# Altium integrated library TI Power Management Hot Swap.IntLib: 76 symbols (part 2 of 5)
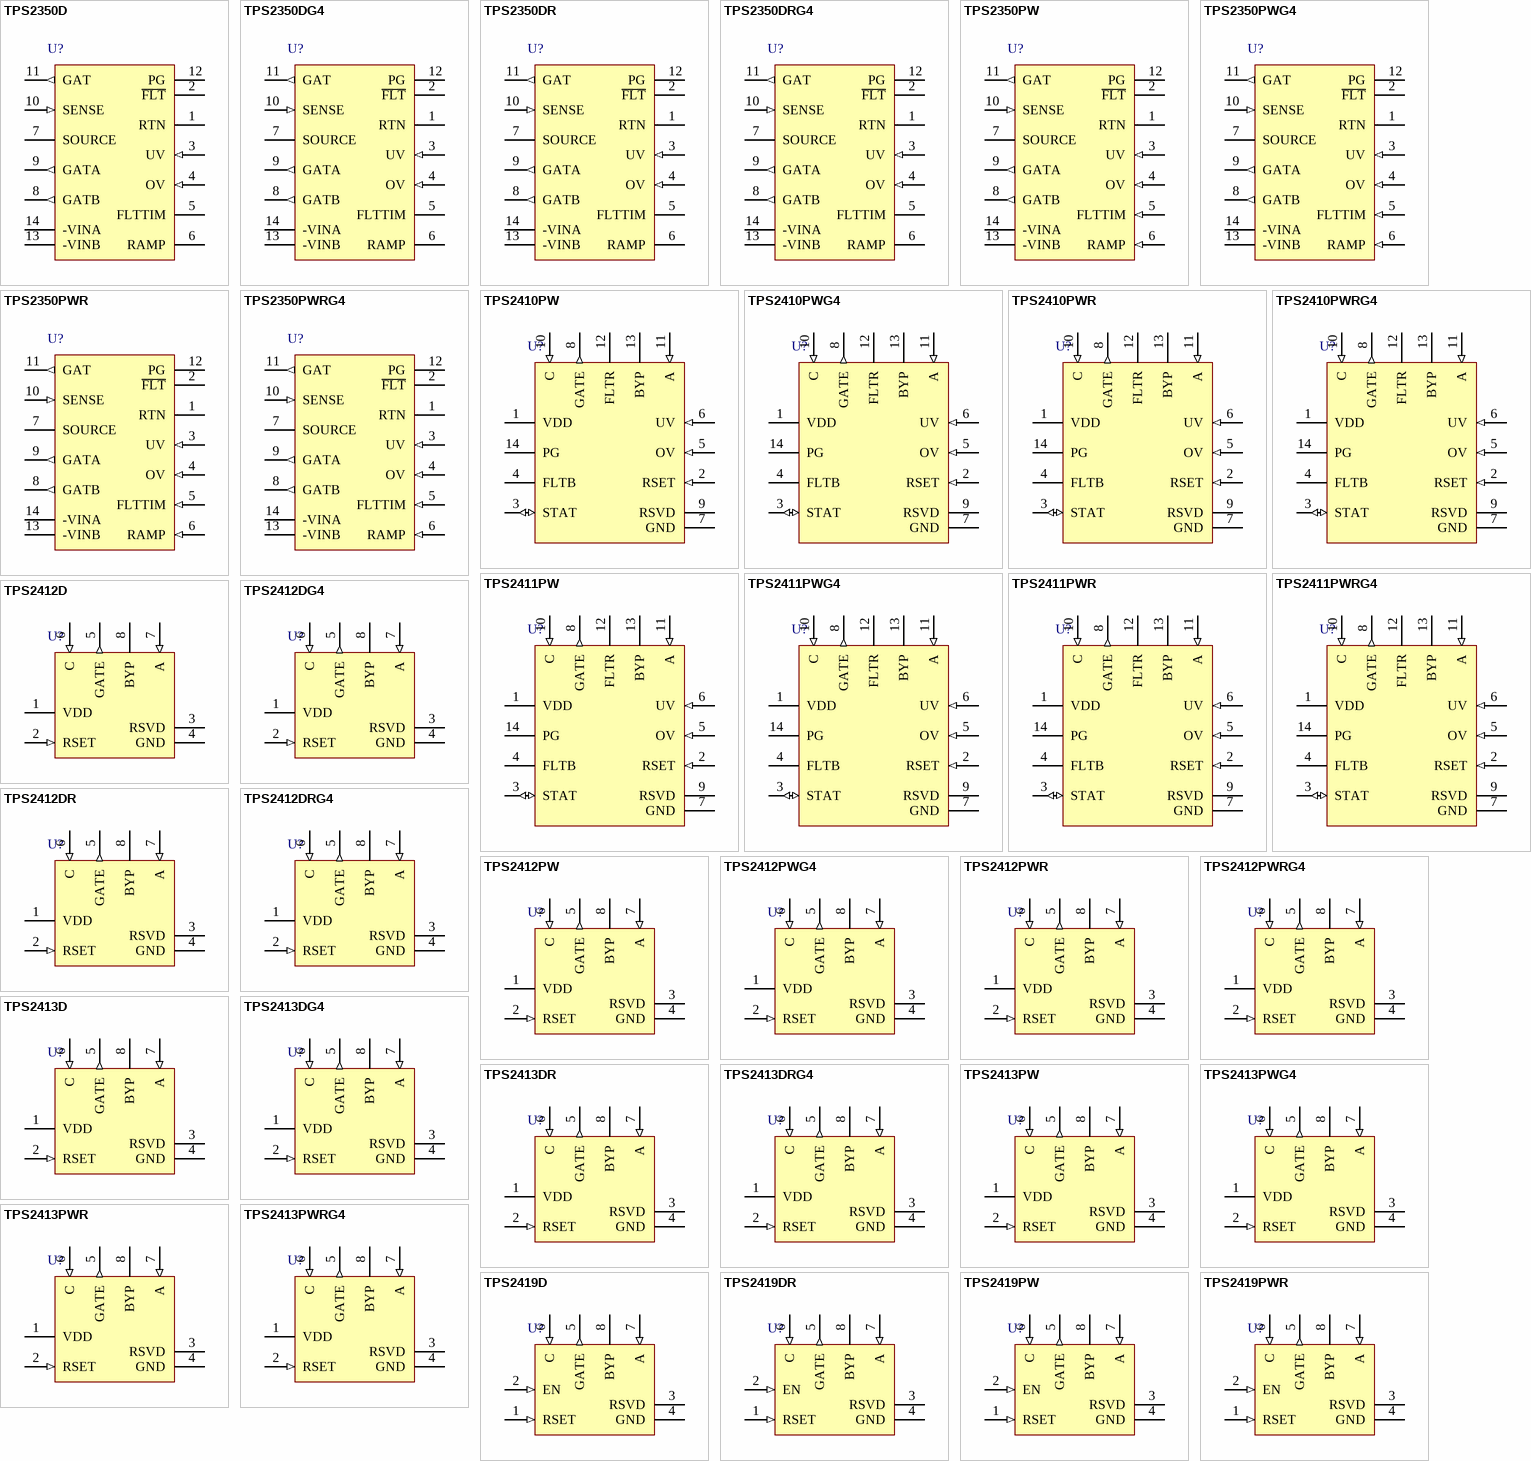
[diagram p3: symbols TPS2350D to TPS2419PWR]

## TPS2412DR
designator U?
N+1 and OR-ing Power Rail Controller, 0.8 to 16.5 V, -40 to 85 degC, 8-pin SOIC (D), Green (RoHS & no Sb/Br); Manufacturer: Texas Instruments; PartNumber: TPS2412DR; Gate Control: linear; No. of Outputs: 1; Vin(Max)(V): 16.5; Vin(Min)(V): 0.8; DatasheetVersion: SLVS728B; PackageVersion: revM, Jun-2011; PackageReference: D8; PackageDescription: 8-Pin Plastic Small Outline Integrated Circuit, 4.9 x 3.9 mm, Pitch 1.27 mm Pitch; Supplier 1: Digi-Key; Supplier Part Number 1: TPS2412DR-ND; Supplier 2: Mouser; Supplier Part Number 2: 595-TPS2412DR; Eco-Plan: Green (RoHS & no Sb/Br); Enable (OV): No; Fault and Status: No; Input Filter: No; Under/Over Voltage Reporting: No; Mounting Technology: Surface Mount; Code_JEDEC: MS-012AA; ComponentLink1Description: Datasheet; ComponentLink1URL: http://www.ti.com/general/docs/lit/getliterature.tsp?genericPartNumber=TPS2412&fileType=pdf
footprint D8_N (SOIC, 8-Leads, Body 4.9x3.9mm, Pitch 1.27mm, IPC Medium Density)
footprint D8_L (SOIC, 8-Leads, Body 4.9x3.9mm, Pitch 1.27mm, IPC High Density)
footprint D8_M (SOIC, 8-Leads, Body 4.9x3.9mm, Pitch 1.27mm, IPC Low Density)
pins: 1 VDD (power) "Input power for the gate drive charge pump and internal controls. VDD must be connected to a supply voltage >= 3 V.", 2 RSET (in) "Connect a resistor to ground to program the turn-off threshold. Leaving RSET open results in a slightly positive V(A-C) turn-off threshold.", 3 RSVD (power) "This pin must be connected to GND.", 4 GND (power) "Device ground.", 5 GATE (out) "Connect to the gate of the external MOSFET. Controls the MOSFET to emulate a low forward-voltage diode.", 6 C (in) "Voltage sense input that connects to the simulated diode cathode. Connect to the MOSFET drain in the typical configuration.", 7 A (in) "Voltage sense input that connects to the simulated diode anode. A also serves as the reference for the charge-pump bias supply on BYP. Connect to the MOSFET source in the typical configuration.", 8 BYP (power) "Connect a storage capacitor from BYP to A to filter the gate drive supply voltage."

## TPS2412DRG4
designator U?
N+1 and OR-ing Power Rail Controller, 0.8 to 16.5 V, -40 to 85 degC, 8-pin SOIC (D), Green (RoHS & no Sb/Br); Manufacturer: Texas Instruments; PartNumber: TPS2412DRG4; Gate Control: linear; No. of Outputs: 1; Vin(Max)(V): 16.5; Vin(Min)(V): 0.8; DatasheetVersion: SLVS728B; PackageVersion: revM, Jun-2011; PackageReference: D8; PackageDescription: 8-Pin Plastic Small Outline Integrated Circuit, 4.9 x 3.9 mm, Pitch 1.27 mm Pitch; Supplier 1: Digi-Key; Supplier Part Number 1: TPS2412DRG4-ND; Supplier 2: Newark; Supplier Part Number 2: 34P6478; Supplier 3: Mouser; Supplier Part Number 3: 595-TPS2412DRG4; Eco-Plan: Green (RoHS & no Sb/Br); Enable (OV): No; Fault and Status: No; Input Filter: No; Under/Over Voltage Reporting: No; Mounting Technology: Surface Mount; Code_JEDEC: MS-012AA; ComponentLink1Description: Datasheet; ComponentLink1URL: http://www.ti.com/general/docs/lit/getliterature.tsp?genericPartNumber=TPS2412&fileType=pdf
footprint D8_N (SOIC, 8-Leads, Body 4.9x3.9mm, Pitch 1.27mm, IPC Medium Density)
footprint D8_L (SOIC, 8-Leads, Body 4.9x3.9mm, Pitch 1.27mm, IPC High Density)
footprint D8_M (SOIC, 8-Leads, Body 4.9x3.9mm, Pitch 1.27mm, IPC Low Density)
pins: 1 VDD (power) "Input power for the gate drive charge pump and internal controls. VDD must be connected to a supply voltage >= 3 V.", 2 RSET (in) "Connect a resistor to ground to program the turn-off threshold. Leaving RSET open results in a slightly positive V(A-C) turn-off threshold.", 3 RSVD (power) "This pin must be connected to GND.", 4 GND (power) "Device ground.", 5 GATE (out) "Connect to the gate of the external MOSFET. Controls the MOSFET to emulate a low forward-voltage diode.", 6 C (in) "Voltage sense input that connects to the simulated diode cathode. Connect to the MOSFET drain in the typical configuration.", 7 A (in) "Voltage sense input that connects to the simulated diode anode. A also serves as the reference for the charge-pump bias supply on BYP. Connect to the MOSFET source in the typical configuration.", 8 BYP (power) "Connect a storage capacitor from BYP to A to filter the gate drive supply voltage."

## TPS2412PW
designator U?
N+1 and OR-ing Power Rail Controller, 0.8 to 16.5 V, -40 to 85 degC, 8-pin TSSOP (PW), Green (RoHS & no Sb/Br); Manufacturer: Texas Instruments; PartNumber: TPS2412PW; Gate Control: linear; No. of Outputs: 1; Vin(Max)(V): 16.5; Vin(Min)(V): 0.8; DatasheetVersion: SLVS728B; PackageVersion: revG, Feb-2011; PackageReference: PW8; PackageDescription: 8-Pin Plastic Thin Small Outline Package 3 x 4.4 mm Body ,0.65 mm Pitch; Supplier 1: Digi-Key; Supplier Part Number 1: 296-21614-5-ND; Supplier 2: Farnell; Supplier Part Number 2: 1364300; Supplier 3: Newark; Supplier Part Number 3: 31M0448; Supplier 4: Mouser; Supplier Part Number 4: 595-TPS2412PW; Eco-Plan: Green (RoHS & no Sb/Br); Enable (OV): No; Fault and Status: No; Input Filter: No; Under/Over Voltage Reporting: No; Mounting Technology: Surface Mount; Code_JEDEC: MO-153; ComponentLink1Description: Datasheet; ComponentLink1URL: http://www.ti.com/general/docs/lit/getliterature.tsp?genericPartNumber=TPS2412&fileType=pdf
footprint PW8_N (TSOP, 8-Leads, Body 3x4.4mm, Pitch 0.65mm, IPC Medium Density)
footprint PW8_L (TSOP, 8-Leads, Body 3x4.4mm, Pitch 0.65mm, IPC High Density)
footprint PW8_M (TSOP, 8-Leads, Body 3x4.4mm, Pitch 0.65mm, IPC Low Density)
pins: 1 VDD (power) "Input power for the gate drive charge pump and internal controls. VDD must be connected to a supply voltage >= 3 V.", 2 RSET (in) "Connect a resistor to ground to program the turn-off threshold. Leaving RSET open results in a slightly positive V(A-C) turn-off threshold.", 3 RSVD (power) "This pin must be connected to GND.", 4 GND (power) "Device ground.", 5 GATE (out) "Connect to the gate of the external MOSFET. Controls the MOSFET to emulate a low forward-voltage diode.", 6 C (in) "Voltage sense input that connects to the simulated diode cathode. Connect to the MOSFET drain in the typical configuration.", 7 A (in) "Voltage sense input that connects to the simulated diode anode. A also serves as the reference for the charge-pump bias supply on BYP. Connect to the MOSFET source in the typical configuration.", 8 BYP (power) "Connect a storage capacitor from BYP to A to filter the gate drive supply voltage."

## TPS2412PWG4
designator U?
N+1 and OR-ing Power Rail Controller, 0.8 to 16.5 V, -40 to 85 degC, 8-pin TSSOP (PW), Green (RoHS & no Sb/Br); Manufacturer: Texas Instruments; PartNumber: TPS2412PWG4; Gate Control: linear; No. of Outputs: 1; Vin(Max)(V): 16.5; Vin(Min)(V): 0.8; DatasheetVersion: SLVS728B; PackageVersion: revG, Feb-2011; PackageReference: PW8; PackageDescription: 8-Pin Plastic Thin Small Outline Package 3 x 4.4 mm Body ,0.65 mm Pitch; Supplier 1: Digi-Key; Supplier Part Number 1: TPS2412PWG4-ND; Supplier 2: Newark; Supplier Part Number 2: 34M0152; Supplier 3: Mouser; Supplier Part Number 3: 595-TPS2412PWG4; Eco-Plan: Green (RoHS & no Sb/Br); Enable (OV): No; Fault and Status: No; Input Filter: No; Under/Over Voltage Reporting: No; Mounting Technology: Surface Mount; Code_JEDEC: MO-153; ComponentLink1Description: Datasheet; ComponentLink1URL: http://www.ti.com/general/docs/lit/getliterature.tsp?genericPartNumber=TPS2412&fileType=pdf
footprint PW8_N (TSOP, 8-Leads, Body 3x4.4mm, Pitch 0.65mm, IPC Medium Density)
footprint PW8_L (TSOP, 8-Leads, Body 3x4.4mm, Pitch 0.65mm, IPC High Density)
footprint PW8_M (TSOP, 8-Leads, Body 3x4.4mm, Pitch 0.65mm, IPC Low Density)
pins: 1 VDD (power) "Input power for the gate drive charge pump and internal controls. VDD must be connected to a supply voltage >= 3 V.", 2 RSET (in) "Connect a resistor to ground to program the turn-off threshold. Leaving RSET open results in a slightly positive V(A-C) turn-off threshold.", 3 RSVD (power) "This pin must be connected to GND.", 4 GND (power) "Device ground.", 5 GATE (out) "Connect to the gate of the external MOSFET. Controls the MOSFET to emulate a low forward-voltage diode.", 6 C (in) "Voltage sense input that connects to the simulated diode cathode. Connect to the MOSFET drain in the typical configuration.", 7 A (in) "Voltage sense input that connects to the simulated diode anode. A also serves as the reference for the charge-pump bias supply on BYP. Connect to the MOSFET source in the typical configuration.", 8 BYP (power) "Connect a storage capacitor from BYP to A to filter the gate drive supply voltage."

## TPS2412PWR
designator U?
N+1 and OR-ing Power Rail Controller, 0.8 to 16.5 V, -40 to 85 degC, 8-pin TSSOP (PW), Green (RoHS & no Sb/Br); Manufacturer: Texas Instruments; PartNumber: TPS2412PWR; Gate Control: linear; No. of Outputs: 1; Vin(Max)(V): 16.5; Vin(Min)(V): 0.8; DatasheetVersion: SLVS728B; PackageVersion: revG, Feb-2011; PackageReference: PW8; PackageDescription: 8-Pin Plastic Thin Small Outline Package 3 x 4.4 mm Body ,0.65 mm Pitch; Supplier 1: Digi-Key; Supplier Part Number 1: TPS2412PWR-ND; Supplier 2: Newark; Supplier Part Number 2: 31M0449; Supplier 3: Mouser; Supplier Part Number 3: 595-TPS2412PWR; Eco-Plan: Green (RoHS & no Sb/Br); Enable (OV): No; Fault and Status: No; Input Filter: No; Under/Over Voltage Reporting: No; Mounting Technology: Surface Mount; Code_JEDEC: MO-153; ComponentLink1Description: Datasheet; ComponentLink1URL: http://www.ti.com/general/docs/lit/getliterature.tsp?genericPartNumber=TPS2412&fileType=pdf
footprint PW8_N (TSOP, 8-Leads, Body 3x4.4mm, Pitch 0.65mm, IPC Medium Density)
footprint PW8_L (TSOP, 8-Leads, Body 3x4.4mm, Pitch 0.65mm, IPC High Density)
footprint PW8_M (TSOP, 8-Leads, Body 3x4.4mm, Pitch 0.65mm, IPC Low Density)
pins: 1 VDD (power) "Input power for the gate drive charge pump and internal controls. VDD must be connected to a supply voltage >= 3 V.", 2 RSET (in) "Connect a resistor to ground to program the turn-off threshold. Leaving RSET open results in a slightly positive V(A-C) turn-off threshold.", 3 RSVD (power) "This pin must be connected to GND.", 4 GND (power) "Device ground.", 5 GATE (out) "Connect to the gate of the external MOSFET. Controls the MOSFET to emulate a low forward-voltage diode.", 6 C (in) "Voltage sense input that connects to the simulated diode cathode. Connect to the MOSFET drain in the typical configuration.", 7 A (in) "Voltage sense input that connects to the simulated diode anode. A also serves as the reference for the charge-pump bias supply on BYP. Connect to the MOSFET source in the typical configuration.", 8 BYP (power) "Connect a storage capacitor from BYP to A to filter the gate drive supply voltage."

## TPS2412PWRG4
designator U?
N+1 and OR-ing Power Rail Controller, 0.8 to 16.5 V, -40 to 85 degC, 8-pin TSSOP (PW), Green (RoHS & no Sb/Br); Manufacturer: Texas Instruments; PartNumber: TPS2412PWRG4; Gate Control: linear; No. of Outputs: 1; Vin(Max)(V): 16.5; Vin(Min)(V): 0.8; DatasheetVersion: SLVS728B; PackageVersion: revG, Feb-2011; PackageReference: PW8; PackageDescription: 8-Pin Plastic Thin Small Outline Package 3 x 4.4 mm Body ,0.65 mm Pitch; Supplier 1: Digi-Key; Supplier Part Number 1: TPS2412PWRG4-ND; Supplier 2: Newark; Supplier Part Number 2: 34M0153; Supplier 3: Mouser; Supplier Part Number 3: 595-TPS2412PWRG4; Eco-Plan: Green (RoHS & no Sb/Br); Enable (OV): No; Fault and Status: No; Input Filter: No; Under/Over Voltage Reporting: No; Mounting Technology: Surface Mount; Code_JEDEC: MO-153; ComponentLink1Description: Datasheet; ComponentLink1URL: http://www.ti.com/general/docs/lit/getliterature.tsp?genericPartNumber=TPS2412&fileType=pdf
footprint PW8_N (TSOP, 8-Leads, Body 3x4.4mm, Pitch 0.65mm, IPC Medium Density)
footprint PW8_L (TSOP, 8-Leads, Body 3x4.4mm, Pitch 0.65mm, IPC High Density)
footprint PW8_M (TSOP, 8-Leads, Body 3x4.4mm, Pitch 0.65mm, IPC Low Density)
pins: 1 VDD (power) "Input power for the gate drive charge pump and internal controls. VDD must be connected to a supply voltage >= 3 V.", 2 RSET (in) "Connect a resistor to ground to program the turn-off threshold. Leaving RSET open results in a slightly positive V(A-C) turn-off threshold.", 3 RSVD (power) "This pin must be connected to GND.", 4 GND (power) "Device ground.", 5 GATE (out) "Connect to the gate of the external MOSFET. Controls the MOSFET to emulate a low forward-voltage diode.", 6 C (in) "Voltage sense input that connects to the simulated diode cathode. Connect to the MOSFET drain in the typical configuration.", 7 A (in) "Voltage sense input that connects to the simulated diode anode. A also serves as the reference for the charge-pump bias supply on BYP. Connect to the MOSFET source in the typical configuration.", 8 BYP (power) "Connect a storage capacitor from BYP to A to filter the gate drive supply voltage."

## TPS2413D
designator U?
N+1 and OR-ing Power Rail Controller, 0.8 to 16.5 V, -40 to 85 degC, 8-pin SOIC (D), Green (RoHS & no Sb/Br); Manufacturer: Texas Instruments; PartNumber: TPS2413D; Gate Control: on/off; No. of Outputs: 1; Vin(Max)(V): 16.5; Vin(Min)(V): 0.8; DatasheetVersion: SLVS728B; PackageVersion: revM, Jun-2011; PackageReference: D8; PackageDescription: 8-Pin Plastic Small Outline Integrated Circuit, 4.9 x 3.9 mm, Pitch 1.27 mm Pitch; Supplier 1: Digi-Key; Supplier Part Number 1: 296-23786-5-ND; Supplier 2: Newark; Supplier Part Number 2: 25P9254; Supplier 3: Mouser; Supplier Part Number 3: 595-TPS2413D; Eco-Plan: Green (RoHS & no Sb/Br); Enable (OV): No; Fault and Status: No; Input Filter: No; Under/Over Voltage Reporting: No; Mounting Technology: Surface Mount; Code_JEDEC: MS-012AA; ComponentLink1Description: Datasheet; ComponentLink1URL: http://www.ti.com/general/docs/lit/getliterature.tsp?genericPartNumber=TPS2413&fileType=pdf
footprint D8_N (SOIC, 8-Leads, Body 4.9x3.9mm, Pitch 1.27mm, IPC Medium Density)
footprint D8_L (SOIC, 8-Leads, Body 4.9x3.9mm, Pitch 1.27mm, IPC High Density)
footprint D8_M (SOIC, 8-Leads, Body 4.9x3.9mm, Pitch 1.27mm, IPC Low Density)
pins: 1 VDD (power) "Input power for the gate drive charge pump and internal controls. VDD must be connected to a supply voltage >= 3 V.", 2 RSET (in) "Connect a resistor to ground to program the turn-off threshold. Leaving RSET open results in a slightly positive V(A-C) turn-off threshold.", 3 RSVD (power) "This pin must be connected to GND.", 4 GND (power) "Device ground.", 5 GATE (out) "Connect to the gate of the external MOSFET. Controls the MOSFET to emulate a low forward-voltage diode.", 6 C (in) "Voltage sense input that connects to the simulated diode cathode. Connect to the MOSFET drain in the typical configuration.", 7 A (in) "Voltage sense input that connects to the simulated diode anode. A also serves as the reference for the charge-pump bias supply on BYP. Connect to the MOSFET source in the typical configuration.", 8 BYP (power) "Connect a storage capacitor from BYP to A to filter the gate drive supply voltage."

## TPS2413DG4
designator U?
N+1 and OR-ing Power Rail Controller, 0.8 to 16.5 V, -40 to 85 degC, 8-pin SOIC (D), Green (RoHS & no Sb/Br); Manufacturer: Texas Instruments; PartNumber: TPS2413DG4; Gate Control: on/off; No. of Outputs: 1; Vin(Max)(V): 16.5; Vin(Min)(V): 0.8; DatasheetVersion: SLVS728B; PackageVersion: revM, Jun-2011; PackageReference: D8; PackageDescription: 8-Pin Plastic Small Outline Integrated Circuit, 4.9 x 3.9 mm, Pitch 1.27 mm Pitch; Supplier 1: Digi-Key; Supplier Part Number 1: TPS2413DG4-ND; Supplier 2: Mouser; Supplier Part Number 2: 595-TPS2413DG4; Eco-Plan: Green (RoHS & no Sb/Br); Enable (OV): No; Fault and Status: No; Input Filter: No; Under/Over Voltage Reporting: No; Mounting Technology: Surface Mount; Code_JEDEC: MS-012AA; ComponentLink1Description: Datasheet; ComponentLink1URL: http://www.ti.com/general/docs/lit/getliterature.tsp?genericPartNumber=TPS2413&fileType=pdf
footprint D8_N (SOIC, 8-Leads, Body 4.9x3.9mm, Pitch 1.27mm, IPC Medium Density)
footprint D8_L (SOIC, 8-Leads, Body 4.9x3.9mm, Pitch 1.27mm, IPC High Density)
footprint D8_M (SOIC, 8-Leads, Body 4.9x3.9mm, Pitch 1.27mm, IPC Low Density)
pins: 1 VDD (power) "Input power for the gate drive charge pump and internal controls. VDD must be connected to a supply voltage >= 3 V.", 2 RSET (in) "Connect a resistor to ground to program the turn-off threshold. Leaving RSET open results in a slightly positive V(A-C) turn-off threshold.", 3 RSVD (power) "This pin must be connected to GND.", 4 GND (power) "Device ground.", 5 GATE (out) "Connect to the gate of the external MOSFET. Controls the MOSFET to emulate a low forward-voltage diode.", 6 C (in) "Voltage sense input that connects to the simulated diode cathode. Connect to the MOSFET drain in the typical configuration.", 7 A (in) "Voltage sense input that connects to the simulated diode anode. A also serves as the reference for the charge-pump bias supply on BYP. Connect to the MOSFET source in the typical configuration.", 8 BYP (power) "Connect a storage capacitor from BYP to A to filter the gate drive supply voltage."

## TPS2413DR
designator U?
N+1 and OR-ing Power Rail Controller, 0.8 to 16.5 V, -40 to 85 degC, 8-pin SOIC (D), Green (RoHS & no Sb/Br); Manufacturer: Texas Instruments; PartNumber: TPS2413DR; Gate Control: on/off; No. of Outputs: 1; Vin(Max)(V): 16.5; Vin(Min)(V): 0.8; DatasheetVersion: SLVS728B; PackageVersion: revM, Jun-2011; PackageReference: D8; PackageDescription: 8-Pin Plastic Small Outline Integrated Circuit, 4.9 x 3.9 mm, Pitch 1.27 mm Pitch; Supplier 1: Digi-Key; Supplier Part Number 1: TPS2413DR-ND; Supplier 2: Mouser; Supplier Part Number 2: 595-TPS2413DR; Eco-Plan: Green (RoHS & no Sb/Br); Enable (OV): No; Fault and Status: No; Input Filter: No; Under/Over Voltage Reporting: No; Mounting Technology: Surface Mount; Code_JEDEC: MS-012AA; ComponentLink1Description: Datasheet; ComponentLink1URL: http://www.ti.com/general/docs/lit/getliterature.tsp?genericPartNumber=TPS2413&fileType=pdf
footprint D8_N (SOIC, 8-Leads, Body 4.9x3.9mm, Pitch 1.27mm, IPC Medium Density)
footprint D8_L (SOIC, 8-Leads, Body 4.9x3.9mm, Pitch 1.27mm, IPC High Density)
footprint D8_M (SOIC, 8-Leads, Body 4.9x3.9mm, Pitch 1.27mm, IPC Low Density)
pins: 1 VDD (power) "Input power for the gate drive charge pump and internal controls. VDD must be connected to a supply voltage >= 3 V.", 2 RSET (in) "Connect a resistor to ground to program the turn-off threshold. Leaving RSET open results in a slightly positive V(A-C) turn-off threshold.", 3 RSVD (power) "This pin must be connected to GND.", 4 GND (power) "Device ground.", 5 GATE (out) "Connect to the gate of the external MOSFET. Controls the MOSFET to emulate a low forward-voltage diode.", 6 C (in) "Voltage sense input that connects to the simulated diode cathode. Connect to the MOSFET drain in the typical configuration.", 7 A (in) "Voltage sense input that connects to the simulated diode anode. A also serves as the reference for the charge-pump bias supply on BYP. Connect to the MOSFET source in the typical configuration.", 8 BYP (power) "Connect a storage capacitor from BYP to A to filter the gate drive supply voltage."

## TPS2413DRG4
designator U?
N+1 and OR-ing Power Rail Controller, 0.8 to 16.5 V, -40 to 85 degC, 8-pin SOIC (D), Green (RoHS & no Sb/Br); Manufacturer: Texas Instruments; PartNumber: TPS2413DRG4; Gate Control: on/off; No. of Outputs: 1; Vin(Max)(V): 16.5; Vin(Min)(V): 0.8; DatasheetVersion: SLVS728B; PackageVersion: revM, Jun-2011; PackageReference: D8; PackageDescription: 8-Pin Plastic Small Outline Integrated Circuit, 4.9 x 3.9 mm, Pitch 1.27 mm Pitch; Supplier 1: Digi-Key; Supplier Part Number 1: TPS2413DRG4-ND; Supplier 2: Mouser; Supplier Part Number 2: 595-TPS2413DRG4; Eco-Plan: Green (RoHS & no Sb/Br); Enable (OV): No; Fault and Status: No; Input Filter: No; Under/Over Voltage Reporting: No; Mounting Technology: Surface Mount; Code_JEDEC: MS-012AA; ComponentLink1Description: Datasheet; ComponentLink1URL: http://www.ti.com/general/docs/lit/getliterature.tsp?genericPartNumber=TPS2413&fileType=pdf
footprint D8_N (SOIC, 8-Leads, Body 4.9x3.9mm, Pitch 1.27mm, IPC Medium Density)
footprint D8_L (SOIC, 8-Leads, Body 4.9x3.9mm, Pitch 1.27mm, IPC High Density)
footprint D8_M (SOIC, 8-Leads, Body 4.9x3.9mm, Pitch 1.27mm, IPC Low Density)
pins: 1 VDD (power) "Input power for the gate drive charge pump and internal controls. VDD must be connected to a supply voltage >= 3 V.", 2 RSET (in) "Connect a resistor to ground to program the turn-off threshold. Leaving RSET open results in a slightly positive V(A-C) turn-off threshold.", 3 RSVD (power) "This pin must be connected to GND.", 4 GND (power) "Device ground.", 5 GATE (out) "Connect to the gate of the external MOSFET. Controls the MOSFET to emulate a low forward-voltage diode.", 6 C (in) "Voltage sense input that connects to the simulated diode cathode. Connect to the MOSFET drain in the typical configuration.", 7 A (in) "Voltage sense input that connects to the simulated diode anode. A also serves as the reference for the charge-pump bias supply on BYP. Connect to the MOSFET source in the typical configuration.", 8 BYP (power) "Connect a storage capacitor from BYP to A to filter the gate drive supply voltage."

## TPS2413PW
designator U?
N+1 and OR-ing Power Rail Controller, 0.8 to 16.5 V, -40 to 85 degC, 8-pin TSSOP (PW), Green (RoHS & no Sb/Br); Manufacturer: Texas Instruments; PartNumber: TPS2413PW; Gate Control: on/off; No. of Outputs: 1; Vin(Max)(V): 16.5; Vin(Min)(V): 0.8; DatasheetVersion: SLVS728B; PackageVersion: revG, Feb-2011; PackageReference: PW8; PackageDescription: 8-Pin Plastic Thin Small Outline Package 3 x 4.4 mm Body ,0.65 mm Pitch; Supplier 1: Digi-Key; Supplier Part Number 1: 296-21615-5-ND; Supplier 2: Newark; Supplier Part Number 2: 31M0450; Supplier 3: Mouser; Supplier Part Number 3: 595-TPS2413PW; Eco-Plan: Green (RoHS & no Sb/Br); Enable (OV): No; Fault and Status: No; Input Filter: No; Under/Over Voltage Reporting: No; Mounting Technology: Surface Mount; Code_JEDEC: MO-153; ComponentLink1Description: Datasheet; ComponentLink1URL: http://www.ti.com/general/docs/lit/getliterature.tsp?genericPartNumber=TPS2413&fileType=pdf
footprint PW8_N (TSOP, 8-Leads, Body 3x4.4mm, Pitch 0.65mm, IPC Medium Density)
footprint PW8_L (TSOP, 8-Leads, Body 3x4.4mm, Pitch 0.65mm, IPC High Density)
footprint PW8_M (TSOP, 8-Leads, Body 3x4.4mm, Pitch 0.65mm, IPC Low Density)
pins: 1 VDD (power) "Input power for the gate drive charge pump and internal controls. VDD must be connected to a supply voltage >= 3 V.", 2 RSET (in) "Connect a resistor to ground to program the turn-off threshold. Leaving RSET open results in a slightly positive V(A-C) turn-off threshold.", 3 RSVD (power) "This pin must be connected to GND.", 4 GND (power) "Device ground.", 5 GATE (out) "Connect to the gate of the external MOSFET. Controls the MOSFET to emulate a low forward-voltage diode.", 6 C (in) "Voltage sense input that connects to the simulated diode cathode. Connect to the MOSFET drain in the typical configuration.", 7 A (in) "Voltage sense input that connects to the simulated diode anode. A also serves as the reference for the charge-pump bias supply on BYP. Connect to the MOSFET source in the typical configuration.", 8 BYP (power) "Connect a storage capacitor from BYP to A to filter the gate drive supply voltage."

## TPS2413PWG4
designator U?
N+1 and OR-ing Power Rail Controller, 0.8 to 16.5 V, -40 to 85 degC, 8-pin TSSOP (PW), Green (RoHS & no Sb/Br); Manufacturer: Texas Instruments; PartNumber: TPS2413PWG4; Gate Control: on/off; No. of Outputs: 1; Vin(Max)(V): 16.5; Vin(Min)(V): 0.8; DatasheetVersion: SLVS728B; PackageVersion: revG, Feb-2011; PackageReference: PW8; PackageDescription: 8-Pin Plastic Thin Small Outline Package 3 x 4.4 mm Body ,0.65 mm Pitch; Supplier 1: Digi-Key; Supplier Part Number 1: TPS2413PWG4-ND; Supplier 2: Newark; Supplier Part Number 2: 34M0155; Supplier 3: Mouser; Supplier Part Number 3: 595-TPS2413PWG4; Eco-Plan: Green (RoHS & no Sb/Br); Enable (OV): No; Fault and Status: No; Input Filter: No; Under/Over Voltage Reporting: No; Mounting Technology: Surface Mount; Code_JEDEC: MO-153; ComponentLink1Description: Datasheet; ComponentLink1URL: http://www.ti.com/general/docs/lit/getliterature.tsp?genericPartNumber=TPS2413&fileType=pdf
footprint PW8_N (TSOP, 8-Leads, Body 3x4.4mm, Pitch 0.65mm, IPC Medium Density)
footprint PW8_L (TSOP, 8-Leads, Body 3x4.4mm, Pitch 0.65mm, IPC High Density)
footprint PW8_M (TSOP, 8-Leads, Body 3x4.4mm, Pitch 0.65mm, IPC Low Density)
pins: 1 VDD (power) "Input power for the gate drive charge pump and internal controls. VDD must be connected to a supply voltage >= 3 V.", 2 RSET (in) "Connect a resistor to ground to program the turn-off threshold. Leaving RSET open results in a slightly positive V(A-C) turn-off threshold.", 3 RSVD (power) "This pin must be connected to GND.", 4 GND (power) "Device ground.", 5 GATE (out) "Connect to the gate of the external MOSFET. Controls the MOSFET to emulate a low forward-voltage diode.", 6 C (in) "Voltage sense input that connects to the simulated diode cathode. Connect to the MOSFET drain in the typical configuration.", 7 A (in) "Voltage sense input that connects to the simulated diode anode. A also serves as the reference for the charge-pump bias supply on BYP. Connect to the MOSFET source in the typical configuration.", 8 BYP (power) "Connect a storage capacitor from BYP to A to filter the gate drive supply voltage."

## TPS2413PWR
designator U?
N+1 and OR-ing Power Rail Controller, 0.8 to 16.5 V, -40 to 85 degC, 8-pin TSSOP (PW), Green (RoHS & no Sb/Br); Manufacturer: Texas Instruments; PartNumber: TPS2413PWR; Gate Control: on/off; No. of Outputs: 1; Vin(Max)(V): 16.5; Vin(Min)(V): 0.8; DatasheetVersion: SLVS728B; PackageVersion: revG, Feb-2011; PackageReference: PW8; PackageDescription: 8-Pin Plastic Thin Small Outline Package 3 x 4.4 mm Body ,0.65 mm Pitch; Supplier 1: Digi-Key; Supplier Part Number 1: TPS2413PWR-ND; Supplier 2: Newark; Supplier Part Number 2: 31M0451; Supplier 3: Mouser; Supplier Part Number 3: 595-TPS2413PWR; Eco-Plan: Green (RoHS & no Sb/Br); Enable (OV): No; Fault and Status: No; Input Filter: No; Under/Over Voltage Reporting: No; Mounting Technology: Surface Mount; Code_JEDEC: MO-153; ComponentLink1Description: Datasheet; ComponentLink1URL: http://www.ti.com/general/docs/lit/getliterature.tsp?genericPartNumber=TPS2413&fileType=pdf
footprint PW8_N (TSOP, 8-Leads, Body 3x4.4mm, Pitch 0.65mm, IPC Medium Density)
footprint PW8_L (TSOP, 8-Leads, Body 3x4.4mm, Pitch 0.65mm, IPC High Density)
footprint PW8_M (TSOP, 8-Leads, Body 3x4.4mm, Pitch 0.65mm, IPC Low Density)
pins: 1 VDD (power) "Input power for the gate drive charge pump and internal controls. VDD must be connected to a supply voltage >= 3 V.", 2 RSET (in) "Connect a resistor to ground to program the turn-off threshold. Leaving RSET open results in a slightly positive V(A-C) turn-off threshold.", 3 RSVD (power) "This pin must be connected to GND.", 4 GND (power) "Device ground.", 5 GATE (out) "Connect to the gate of the external MOSFET. Controls the MOSFET to emulate a low forward-voltage diode.", 6 C (in) "Voltage sense input that connects to the simulated diode cathode. Connect to the MOSFET drain in the typical configuration.", 7 A (in) "Voltage sense input that connects to the simulated diode anode. A also serves as the reference for the charge-pump bias supply on BYP. Connect to the MOSFET source in the typical configuration.", 8 BYP (power) "Connect a storage capacitor from BYP to A to filter the gate drive supply voltage."

## TPS2413PWRG4
designator U?
N+1 and OR-ing Power Rail Controller, 0.8 to 16.5 V, -40 to 85 degC, 8-pin TSSOP (PW), Green (RoHS & no Sb/Br); Manufacturer: Texas Instruments; PartNumber: TPS2413PWRG4; Gate Control: on/off; No. of Outputs: 1; Vin(Max)(V): 16.5; Vin(Min)(V): 0.8; DatasheetVersion: SLVS728B; PackageVersion: revG, Feb-2011; PackageReference: PW8; PackageDescription: 8-Pin Plastic Thin Small Outline Package 3 x 4.4 mm Body ,0.65 mm Pitch; Supplier 1: Digi-Key; Supplier Part Number 1: TPS2413PWRG4-ND; Supplier 2: Newark; Supplier Part Number 2: 34M0156; Supplier 3: Mouser; Supplier Part Number 3: 595-TPS2413PWRG4; Eco-Plan: Green (RoHS & no Sb/Br); Enable (OV): No; Fault and Status: No; Input Filter: No; Under/Over Voltage Reporting: No; Mounting Technology: Surface Mount; Code_JEDEC: MO-153; ComponentLink1Description: Datasheet; ComponentLink1URL: http://www.ti.com/general/docs/lit/getliterature.tsp?genericPartNumber=TPS2413&fileType=pdf
footprint PW8_N (TSOP, 8-Leads, Body 3x4.4mm, Pitch 0.65mm, IPC Medium Density)
footprint PW8_L (TSOP, 8-Leads, Body 3x4.4mm, Pitch 0.65mm, IPC High Density)
footprint PW8_M (TSOP, 8-Leads, Body 3x4.4mm, Pitch 0.65mm, IPC Low Density)
pins: 1 VDD (power) "Input power for the gate drive charge pump and internal controls. VDD must be connected to a supply voltage >= 3 V.", 2 RSET (in) "Connect a resistor to ground to program the turn-off threshold. Leaving RSET open results in a slightly positive V(A-C) turn-off threshold.", 3 RSVD (power) "This pin must be connected to GND.", 4 GND (power) "Device ground.", 5 GATE (out) "Connect to the gate of the external MOSFET. Controls the MOSFET to emulate a low forward-voltage diode.", 6 C (in) "Voltage sense input that connects to the simulated diode cathode. Connect to the MOSFET drain in the typical configuration.", 7 A (in) "Voltage sense input that connects to the simulated diode anode. A also serves as the reference for the charge-pump bias supply on BYP. Connect to the MOSFET source in the typical configuration.", 8 BYP (power) "Connect a storage capacitor from BYP to A to filter the gate drive supply voltage."

## TPS2419D
designator U?
N+1 and ORing Power Rail Controller with Enable, 0.8 to 16.5 V, -40 to 85 degC, 8-pin SOIC (D), Green (RoHS & no Sb/Br); Manufacturer: Texas Instruments; PartNumber: TPS2419D; Enable (OV): Yes; Gate Control: on/off; No. of Outputs: 1; Vin(Max)(V): 16.5; Vin(Min)(V): 0.8; DatasheetVersion: SLVS998B; PackageVersion: revM, Jun-2011; PackageReference: D8; PackageDescription: 8-Pin Plastic Small Outline Integrated Circuit, 4.9 x 3.9 mm, Pitch 1.27 mm Pitch; Supplier 1: Digi-Key; Supplier Part Number 1: 296-27213-5-ND; Supplier 2: Farnell; Supplier Part Number 2: 1815764; Supplier 3: Newark; Supplier Part Number 3: 23T1443; Supplier 4: Newark; Supplier Part Number 4: 90R9913; Supplier 5: Mouser; Supplier Part Number 5: 595-TPS2419D; Eco-Plan: Green (RoHS & no Sb/Br); Fault and Status: No; Input Filter: No; Under/Over Voltage Reporting: No; Mounting Technology: Surface Mount; Code_JEDEC: MS-012AA; ComponentLink1Description: Datasheet; ComponentLink1URL: http://www.ti.com/general/docs/lit/getliterature.tsp?genericPartNumber=TPS2419&fileType=pdf
footprint D8_N (SOIC, 8-Leads, Body 4.9x3.9mm, Pitch 1.27mm, IPC Medium Density)
footprint D8_L (SOIC, 8-Leads, Body 4.9x3.9mm, Pitch 1.27mm, IPC High Density)
footprint D8_M (SOIC, 8-Leads, Body 4.9x3.9mm, Pitch 1.27mm, IPC Low Density)
pins: 1 RSET (in) "Connect a resistor to ground to program the turn-off threshold. Leaving RSET open results in a slightly positive V(A-C) turn-off threshold.", 2 EN (in) "Pull EN above 1.3 V to permit normal ORing operation. A low on EN holds GATE low.", 3 RSVD (power) "This pin must be connected to GND.", 4 GND (power) "Device ground.", 5 GATE (out) "Connect to the gate of the external MOSFET. Controls the MOSFET to emulate a low forward-voltage diode.", 6 C (in) "Voltage sense input that connects to the simulated diode cathode, and also serves as the bias supply for the gate drive charge pump and internal controls. Connect to the MOSFET drain in the typical configuration.", 7 A (in) "Voltage sense input that connects to the simulated diode anode, and also serves as the reference for the charge-pump bias supply on BYP. Connect to the MOSFET source in the typical configuration.", 8 BYP (power) "Connect a capacitor from BYP to A to filter the gate drive supply voltage."

## TPS2419DR
designator U?
N+1 and ORing Power Rail Controller with Enable, 0.8 to 16.5 V, -40 to 85 degC, 8-pin SOIC (D), Green (RoHS & no Sb/Br); Manufacturer: Texas Instruments; PartNumber: TPS2419DR; Enable (OV): Yes; Gate Control: on/off; No. of Outputs: 1; Vin(Max)(V): 16.5; Vin(Min)(V): 0.8; DatasheetVersion: SLVS998B; PackageVersion: revM, Jun-2011; PackageReference: D8; PackageDescription: 8-Pin Plastic Small Outline Integrated Circuit, 4.9 x 3.9 mm, Pitch 1.27 mm Pitch; Supplier 1: Digi-Key; Supplier Part Number 1: TPS2419DR-ND; Supplier 2: Newark; Supplier Part Number 2: 72R6634; Supplier 3: Mouser; Supplier Part Number 3: 595-TPS2419DR; Eco-Plan: Green (RoHS & no Sb/Br); Fault and Status: No; Input Filter: No; Under/Over Voltage Reporting: No; Mounting Technology: Surface Mount; Code_JEDEC: MS-012AA; ComponentLink1Description: Datasheet; ComponentLink1URL: http://www.ti.com/general/docs/lit/getliterature.tsp?genericPartNumber=TPS2419&fileType=pdf
footprint D8_N (SOIC, 8-Leads, Body 4.9x3.9mm, Pitch 1.27mm, IPC Medium Density)
footprint D8_L (SOIC, 8-Leads, Body 4.9x3.9mm, Pitch 1.27mm, IPC High Density)
footprint D8_M (SOIC, 8-Leads, Body 4.9x3.9mm, Pitch 1.27mm, IPC Low Density)
pins: 1 RSET (in) "Connect a resistor to ground to program the turn-off threshold. Leaving RSET open results in a slightly positive V(A-C) turn-off threshold.", 2 EN (in) "Pull EN above 1.3 V to permit normal ORing operation. A low on EN holds GATE low.", 3 RSVD (power) "This pin must be connected to GND.", 4 GND (power) "Device ground.", 5 GATE (out) "Connect to the gate of the external MOSFET. Controls the MOSFET to emulate a low forward-voltage diode.", 6 C (in) "Voltage sense input that connects to the simulated diode cathode, and also serves as the bias supply for the gate drive charge pump and internal controls. Connect to the MOSFET drain in the typical configuration.", 7 A (in) "Voltage sense input that connects to the simulated diode anode, and also serves as the reference for the charge-pump bias supply on BYP. Connect to the MOSFET source in the typical configuration.", 8 BYP (power) "Connect a capacitor from BYP to A to filter the gate drive supply voltage."

## TPS2419PW
designator U?
N+1 and ORing Power Rail Controller with Enable, 0.8 to 16.5 V, -40 to 85 degC, 8-pin TSSOP (PW), Green (RoHS & no Sb/Br); Manufacturer: Texas Instruments; PartNumber: TPS2419PW; Enable (OV): Yes; Gate Control: on/off; No. of Outputs: 1; Vin(Max)(V): 16.5; Vin(Min)(V): 0.8; DatasheetVersion: SLVS998B; PackageVersion: revG, Feb-2011; PackageReference: PW8; PackageDescription: 8-Pin Plastic Thin Small Outline Package 3 x 4.4 mm Body ,0.65 mm Pitch; Supplier 1: Digi-Key; Supplier Part Number 1: 296-34599-5-ND; Supplier 2: Farnell; Supplier Part Number 2: 1815765; Supplier 3: Newark; Supplier Part Number 3: 23T1444; Supplier 4: Newark; Supplier Part Number 4: 90R9914; Supplier 5: Mouser; Supplier Part Number 5: 595-TPS2419PW; Eco-Plan: Green (RoHS & no Sb/Br); Fault and Status: No; Input Filter: No; Under/Over Voltage Reporting: No; Mounting Technology: Surface Mount; Code_JEDEC: MO-153; ComponentLink1Description: Datasheet; ComponentLink1URL: http://www.ti.com/general/docs/lit/getliterature.tsp?genericPartNumber=TPS2419&fileType=pdf
footprint PW8_N (TSOP, 8-Leads, Body 3x4.4mm, Pitch 0.65mm, IPC Medium Density)
footprint PW8_L (TSOP, 8-Leads, Body 3x4.4mm, Pitch 0.65mm, IPC High Density)
footprint PW8_M (TSOP, 8-Leads, Body 3x4.4mm, Pitch 0.65mm, IPC Low Density)
pins: 1 RSET (in) "Connect a resistor to ground to program the turn-off threshold. Leaving RSET open results in a slightly positive V(A-C) turn-off threshold.", 2 EN (in) "Pull EN above 1.3 V to permit normal ORing operation. A low on EN holds GATE low.", 3 RSVD (power) "This pin must be connected to GND.", 4 GND (power) "Device ground.", 5 GATE (out) "Connect to the gate of the external MOSFET. Controls the MOSFET to emulate a low forward-voltage diode.", 6 C (in) "Voltage sense input that connects to the simulated diode cathode, and also serves as the bias supply for the gate drive charge pump and internal controls. Connect to the MOSFET drain in the typical configuration.", 7 A (in) "Voltage sense input that connects to the simulated diode anode, and also serves as the reference for the charge-pump bias supply on BYP. Connect to the MOSFET source in the typical configuration.", 8 BYP (power) "Connect a capacitor from BYP to A to filter the gate drive supply voltage."

## TPS2419PWR
designator U?
N+1 and ORing Power Rail Controller with Enable, 0.8 to 16.5 V, -40 to 85 degC, 8-pin TSSOP (PW), Green (RoHS & no Sb/Br); Manufacturer: Texas Instruments; PartNumber: TPS2419PWR; Enable (OV): Yes; Gate Control: on/off; No. of Outputs: 1; Vin(Max)(V): 16.5; Vin(Min)(V): 0.8; DatasheetVersion: SLVS998B; PackageVersion: revG, Feb-2011; PackageReference: PW8; PackageDescription: 8-Pin Plastic Thin Small Outline Package 3 x 4.4 mm Body ,0.65 mm Pitch; Supplier 1: Digi-Key; Supplier Part Number 1: 296-27214-2-ND; Supplier 2: Digi-Key; Supplier Part Number 2: 296-27214-1-ND; Supplier 3: Digi-Key; Supplier Part Number 3: 296-27214-6-ND; Supplier 4: Newark; Supplier Part Number 4: 72R6635; Supplier 5: Mouser; Supplier Part Number 5: 595-TPS2419PWR; Eco-Plan: Green (RoHS & no Sb/Br); Fault and Status: No; Input Filter: No; Under/Over Voltage Reporting: No; Mounting Technology: Surface Mount; Code_JEDEC: MO-153; ComponentLink1Description: Datasheet; ComponentLink1URL: http://www.ti.com/general/docs/lit/getliterature.tsp?genericPartNumber=TPS2419&fileType=pdf
footprint PW8_N (TSOP, 8-Leads, Body 3x4.4mm, Pitch 0.65mm, IPC Medium Density)
footprint PW8_L (TSOP, 8-Leads, Body 3x4.4mm, Pitch 0.65mm, IPC High Density)
footprint PW8_M (TSOP, 8-Leads, Body 3x4.4mm, Pitch 0.65mm, IPC Low Density)
pins: 1 RSET (in) "Connect a resistor to ground to program the turn-off threshold. Leaving RSET open results in a slightly positive V(A-C) turn-off threshold.", 2 EN (in) "Pull EN above 1.3 V to permit normal ORing operation. A low on EN holds GATE low.", 3 RSVD (power) "This pin must be connected to GND.", 4 GND (power) "Device ground.", 5 GATE (out) "Connect to the gate of the external MOSFET. Controls the MOSFET to emulate a low forward-voltage diode.", 6 C (in) "Voltage sense input that connects to the simulated diode cathode, and also serves as the bias supply for the gate drive charge pump and internal controls. Connect to the MOSFET drain in the typical configuration.", 7 A (in) "Voltage sense input that connects to the simulated diode anode, and also serves as the reference for the charge-pump bias supply on BYP. Connect to the MOSFET source in the typical configuration.", 8 BYP (power) "Connect a capacitor from BYP to A to filter the gate drive supply voltage."

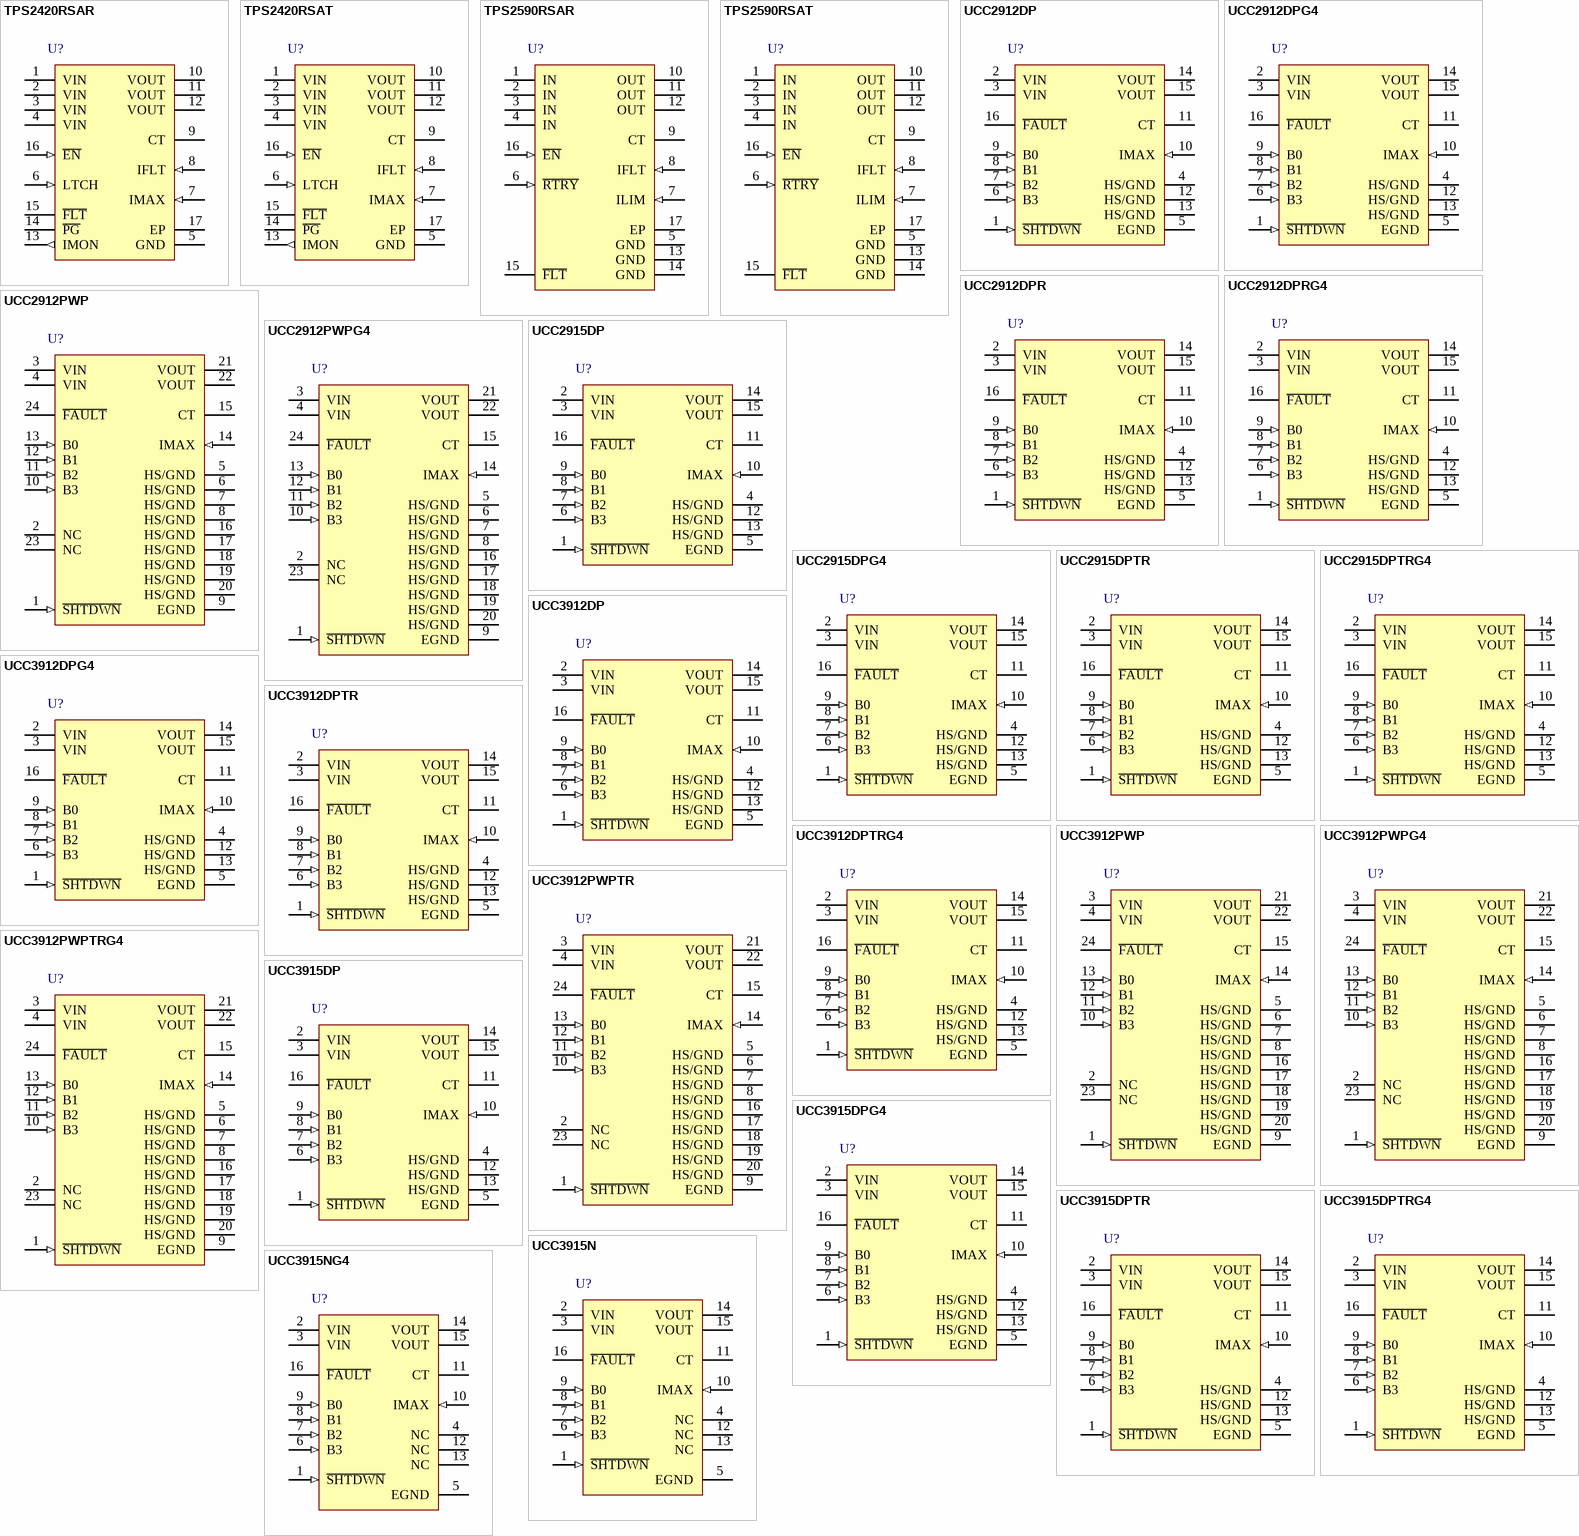
[diagram p1: symbols TPS2420RSAR to UCC3915NG4]

## TPS2420RSAR
designator U?
3 to 20 V Integrated FET 0 to 5 A Dual Fault Threshold Hot Swap with Load Current Monitoring, -40 to 125 degC, 16-pin QFN (RSA), Green (RoHS & no Sb/Br); Manufacturer: Texas Instruments; PartNumber: TPS2420RSAR; Fault Current Range (IFLT)(A): 0 - 5; Rds(ON) FET(Typ)(mOhms): 20; Retry: Yes; SubFamily: Hot-Swap Switch (Integrated FET); Vin(Min)(V): 3; DatasheetVersion: SLUS960D; PackageVersion: revD, Jun-2011; PackageReference: RSA16-2700X2700TP; PackageDescription: 16-Pin Plastic Quad Flatpack No-Lead 0.65 mm Pitch; Supplier 1: Digi-Key; Supplier Part Number 1: 296-24162-2-ND; Supplier 2: Digi-Key; Supplier Part Number 2: 296-24162-1-ND; Supplier 3: Digi-Key; Supplier Part Number 3: 296-24162-6-ND; Supplier 4: Newark; Supplier Part Number 4: 09R6635; Supplier 5: Mouser; Supplier Part Number 5: 595-TPS2420RSAR; Eco-Plan: Green (RoHS & no Sb/Br); Vin(Max)(V): 20; Mounting Technology: Surface Mount; Code_JEDEC: MO-220; ComponentLink1Description: Datasheet; ComponentLink1URL: http://www.ti.com/general/docs/lit/getliterature.tsp?genericPartNumber=TPS2590&fileType=pdf; ComponentLink2Description: URL Link1; ComponentLink2URL: Samples URL:http://www.ti.com/product/tps2420#samples
footprint RSA16-2700X2700TP (QFN, 16-Leads, Body 4x4mm, Pitch 0.65mm, Thermal Pad 2.7x2.7mm, TI Recommended)
pins: 1 VIN (power) "Power in and control supply voltage .", 2 VIN (power) "Power in and control supply voltage .", 3 VIN (power) "Power in and control supply voltage .", 4 VIN (power) "Power in and control supply voltage .", 5 GND (power) "Ground.", 6 LTCH (in) "If low, the TPS2420 will attempt to restart after an overcurrent fault. If floating (high) the device will latch off after an overcurrent fault and will not attempt to restart until EN or VIN is cycled off and on.", 7 IMAX (in) "A resistor to ground sets the current limit level.", 8 IFLT (in) "A resistor to ground sets the fault current level.", 9 CT "A capacitor to ground sets the fault time.", 10 VOUT (power) "Output to the load.", 11 VOUT (power) "Output to the load.", 12 VOUT (power) "Output to the load.", 13 IMON (out) "A scaled down current which indicates the current through the device.", 14 ~{PG} (oc) "Power Good low represents the output voltage is within 300 mV of the input voltage.", 15 ~{FLT} (oc) "Fault low indicated the fault time has expired and the FET is switched off.", 16 ~{EN} (in) "Device is enabled when this pin is pulled low.", 17 EP (power) "Exposed thermal pad"

## TPS2420RSAT
designator U?
3 to 20 V Integrated FET 0 to 5 A Dual Fault Threshold Hot Swap with Load Current Monitoring, -40 to 125 degC, 16-pin QFN (RSA), Green (RoHS & no Sb/Br); Manufacturer: Texas Instruments; PartNumber: TPS2420RSAT; Fault Current Range (IFLT)(A): 0 - 5; Rds(ON) FET(Typ)(mOhms): 20; Retry: Yes; SubFamily: Hot-Swap Switch (Integrated FET); Vin(Min)(V): 3; DatasheetVersion: SLUS960D; PackageVersion: revD, Jun-2011; PackageReference: RSA16-2700X2700TP; PackageDescription: 16-Pin Plastic Quad Flatpack No-Lead 0.65 mm Pitch; Supplier 1: Digi-Key; Supplier Part Number 1: 296-24175-2-ND; Supplier 2: Digi-Key; Supplier Part Number 2: 296-24175-1-ND; Supplier 3: Digi-Key; Supplier Part Number 3: 296-24175-6-ND; Supplier 4: Farnell; Supplier Part Number 4: 1710811; Supplier 5: Newark; Supplier Part Number 5: 56P3012; Supplier 6: Mouser; Supplier Part Number 6: 595-TPS2420RSAT; Eco-Plan: Green (RoHS & no Sb/Br); Vin(Max)(V): 20; Mounting Technology: Surface Mount; Code_JEDEC: MO-220; ComponentLink1Description: Datasheet; ComponentLink1URL: http://www.ti.com/general/docs/lit/getliterature.tsp?genericPartNumber=TPS2590&fileType=pdf; ComponentLink2Description: URL Link1; ComponentLink2URL: Samples URL:http://www.ti.com/product/tps2420#samples
footprint RSA16-2700X2700TP (QFN, 16-Leads, Body 4x4mm, Pitch 0.65mm, Thermal Pad 2.7x2.7mm, TI Recommended)
pins: 1 VIN (power) "Power in and control supply voltage .", 2 VIN (power) "Power in and control supply voltage .", 3 VIN (power) "Power in and control supply voltage .", 4 VIN (power) "Power in and control supply voltage .", 5 GND (power) "Ground.", 6 LTCH (in) "If low, the TPS2420 will attempt to restart after an overcurrent fault. If floating (high) the device will latch off after an overcurrent fault and will not attempt to restart until EN or VIN is cycled off and on.", 7 IMAX (in) "A resistor to ground sets the current limit level.", 8 IFLT (in) "A resistor to ground sets the fault current level.", 9 CT "A capacitor to ground sets the fault time.", 10 VOUT (power) "Output to the load.", 11 VOUT (power) "Output to the load.", 12 VOUT (power) "Output to the load.", 13 IMON (out) "A scaled down current which indicates the current through the device.", 14 ~{PG} (oc) "Power Good low represents the output voltage is within 300 mV of the input voltage.", 15 ~{FLT} (oc) "Fault low indicated the fault time has expired and the FET is switched off.", 16 ~{EN} (in) "Device is enabled when this pin is pulled low.", 17 EP (power) "Exposed thermal pad"

## TPS2590RSAR
designator U?
3 to 20 V High Current Load Switch, -40 to 125 degC, 16-pin QFN (RSA), Green (RoHS & no Sb/Br); Manufacturer: Texas Instruments; PartNumber: TPS2590RSAR; Fault Current Range (IFLT)(A): 0 - 5; Rds(ON) FET(Typ)(mOhms): 28; Retry: Yes; SubFamily: Hot-Swap Switch (Integrated FET); Vin(Max)(V): 20; Vin(Min)(V): 3; DatasheetVersion: SLUS960D; PackageVersion: revD, Jun-2011; PackageReference: RSA16-2700X2700TP; PackageDescription: 16-Pin Plastic Quad Flatpack No-Lead 0.65 mm Pitch; Supplier 1: Digi-Key; Supplier Part Number 1: TPS2590RSAR-ND; Supplier 2: Newark; Supplier Part Number 2: 25R0094; Supplier 3: Mouser; Supplier Part Number 3: 595-TPS2590RSAR; Eco-Plan: Green (RoHS & no Sb/Br); Mounting Technology: Surface Mount; Code_JEDEC: MO-220; ComponentLink1Description: Datasheet; ComponentLink1URL: http://www.ti.com/general/docs/lit/getliterature.tsp?genericPartNumber=TPS2590&fileType=pdf; ComponentLink2Description: URL Link1; ComponentLink2URL: Samples URL:http://www.ti.com/product/tps2590#samples
footprint RSA16-2700X2700TP (QFN, 16-Leads, Body 4x4mm, Pitch 0.65mm, Thermal Pad 2.7x2.7mm, TI Recommended)
pins: 1 IN (power) "Power In and control supply voltage", 2 IN (power) "Power In and control supply voltage", 3 IN (power) "Power In and control supply voltage", 4 IN (power) "Power In and control supply voltage", 5 GND (power), 6 ~{RTRY} (in) "If low, the TPS2590 will attempt to restart after an overcurrent fault. If floating (high) the device will latch off after an overcurrent fault and will not attempt to restart until E\N\ or Vin is cycled off and on.", 7 ILIM (in) "A resistor to ground sets the current limit level.", 8 IFLT (in) "A resistor to ground sets the fault current level.", 9 CT "A capacitor to ground sets the fault time.", 10 OUT (power) "Output to the load.", 11 OUT (power) "Output to the load.", 12 OUT (power) "Output to the load.", 13 GND (power), 14 GND (power), 15 ~{FLT} (oc) "Fault low indicated the fault time has expired and the FET is switched off.", 16 ~{EN} (in) "Device is enabled when this pin is pulled low", 17 EP "Thermal pad"

## TPS2590RSAT
designator U?
3 to 20 V High Current Load Switch, -40 to 125 degC, 16-pin QFN (RSA), Green (RoHS & no Sb/Br); Manufacturer: Texas Instruments; PartNumber: TPS2590RSAT; Fault Current Range (IFLT)(A): 0 - 5; Rds(ON) FET(Typ)(mOhms): 28; Retry: Yes; SubFamily: Hot-Swap Switch (Integrated FET); Vin(Max)(V): 20; Vin(Min)(V): 3; DatasheetVersion: SLUS960D; PackageVersion: revD, Jun-2011; PackageReference: RSA16-2700X2700TP; PackageDescription: 16-Pin Plastic Quad Flatpack No-Lead 0.65 mm Pitch; Supplier 1: Digi-Key; Supplier Part Number 1: 296-24879-2-ND; Supplier 2: Digi-Key; Supplier Part Number 2: 296-24879-1-ND; Supplier 3: Digi-Key; Supplier Part Number 3: 296-24879-6-ND; Supplier 4: Newark; Supplier Part Number 4: 25R0095; Supplier 5: Mouser; Supplier Part Number 5: 595-TPS2590RSAT; Eco-Plan: Green (RoHS & no Sb/Br); Mounting Technology: Surface Mount; Code_JEDEC: MO-220; ComponentLink1Description: Datasheet; ComponentLink1URL: http://www.ti.com/general/docs/lit/getliterature.tsp?genericPartNumber=TPS2590&fileType=pdf; ComponentLink2Description: URL Link1; ComponentLink2URL: Samples URL:http://www.ti.com/product/tps2590#samples
footprint RSA16-2700X2700TP (QFN, 16-Leads, Body 4x4mm, Pitch 0.65mm, Thermal Pad 2.7x2.7mm, TI Recommended)
pins: 1 IN (power) "Power In and control supply voltage", 2 IN (power) "Power In and control supply voltage", 3 IN (power) "Power In and control supply voltage", 4 IN (power) "Power In and control supply voltage", 5 GND (power), 6 ~{RTRY} (in) "If low, the TPS2590 will attempt to restart after an overcurrent fault. If floating (high) the device will latch off after an overcurrent fault and will not attempt to restart until E\N\ or Vin is cycled off and on.", 7 ILIM (in) "A resistor to ground sets the current limit level.", 8 IFLT (in) "A resistor to ground sets the fault current level.", 9 CT "A capacitor to ground sets the fault time.", 10 OUT (power) "Output to the load.", 11 OUT (power) "Output to the load.", 12 OUT (power) "Output to the load.", 13 GND (power), 14 GND (power), 15 ~{FLT} (oc) "Fault low indicated the fault time has expired and the FET is switched off.", 16 ~{EN} (in) "Device is enabled when this pin is pulled low", 17 EP "Thermal pad"